# Altium footprint library SN74AUP1G08DCKR.PcbLib: 1 footprints
Each footprint in its own frame and in the unit in brackets; x right, y up, seen from the top. Pads: shape width x height; smd on the part's side, far side on the other; paste and mask are expansions set on the pad; w line width, h text height; cw(c..) or ccw(c..) is an arc to the next point about the centre after c.
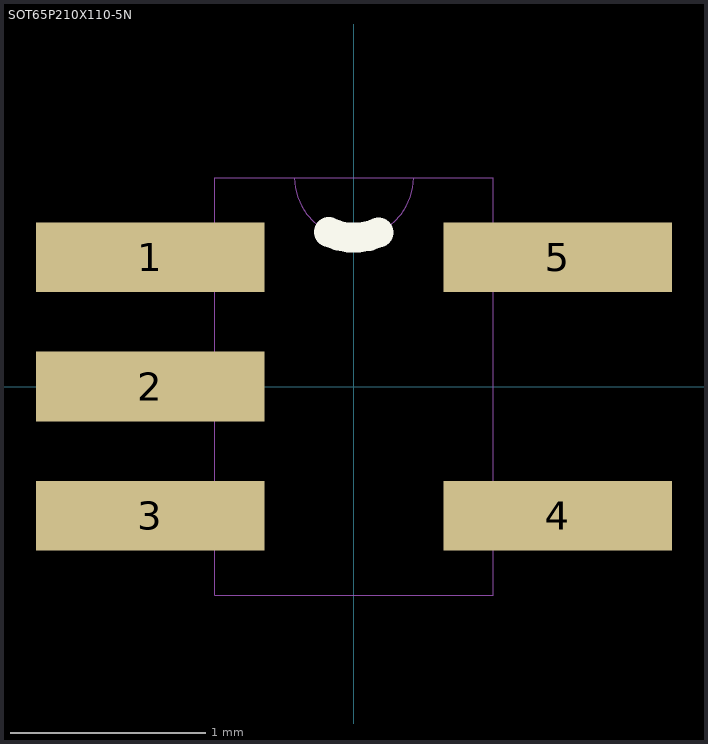
[diagram p0: the footprint, top view; thin cyan lines are the x and y axes]

## SOT65P210X110-5N [mil]
pads (5):
  rect 46x14 smd: 1(-41,26) 2(-41,0) 3(-41,-26) 4(41,-26) 5(41,26)
Top Overlay:
  lines w6: -5.1,31.04 ccw(c0,41.97) 4.9,30.96
Mechanical 1:
  lines w0: -28,-31 -47,-31 -47,-20 -28,-20 ; -28,-31 -28,-20 ; -28,-31 -28,-42 28,-42 28,-31 ; -28,-20 -28,-6 ; -28,-6 -47,-6 -47,6 -28,6 ; -28,-6 -28,6 ; -28,6 -28,20 ; -28,20 -47,20 -47,31 -28,31 ; -28,20 -28,31 ; -28,31 -28,42 -12,42 ; -12,42 ccw(c0,42) 12,42 ; -12,42 12,42 ; 12,42 28,42 28,31 ; 28,-31 47,-31 47,-20 28,-20 ; 28,-31 28,-20 ; 28,-20 28,20 ; 28,20 47,20 47,31 28,31 ; 28,20 28,31